# Altium schematic symbol library TLP290-4.SchLib: 1 symbol
Pins are listed as number, name and electrical type; pins without a type are passive.

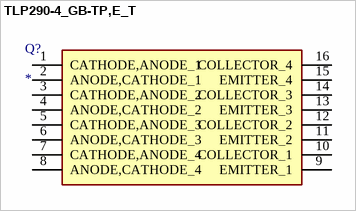
[diagram p0: symbol TLP290-4_GB-TP,E_T]

## TLP290-4_GB-TP,E_T
designator Q?
Phototransistor; Manufacturer_Name: Toshiba; Manufacturer_Part_Number: TLP290-4(GB-TP,E(T; Description: Photocoupler (phototransistor output); Datasheet Link: http://toshiba.semicon-storage.com/info/docget.jsp?did=12855&prodName=TLP290-4; Height: 2.3mm; Arrow Part Number: TLP290-4(GB-TP,E(T; Arrow Price/Stock: http://www.arrow.com/en/products/tlp290-4-gb-tpe-t/toshiba
footprint SOIC127P700X230-16N
pins: 1 CATHODE,ANODE_1, 2 ANODE,CATHODE_1, 3 CATHODE,ANODE_2, 4 ANODE,CATHODE_2, 5 CATHODE,ANODE_3, 6 ANODE,CATHODE_3, 7 CATHODE,ANODE_4, 8 ANODE,CATHODE_4, 9 EMITTER_1, 10 COLLECTOR_1, 11 EMITTER_2, 12 COLLECTOR_2, 13 EMITTER_3, 14 COLLECTOR_3, 15 EMITTER_4, 16 COLLECTOR_4